# EAGLE library part HDMI_A_RECPT (library custom)
A HDMI type A single data receptacle
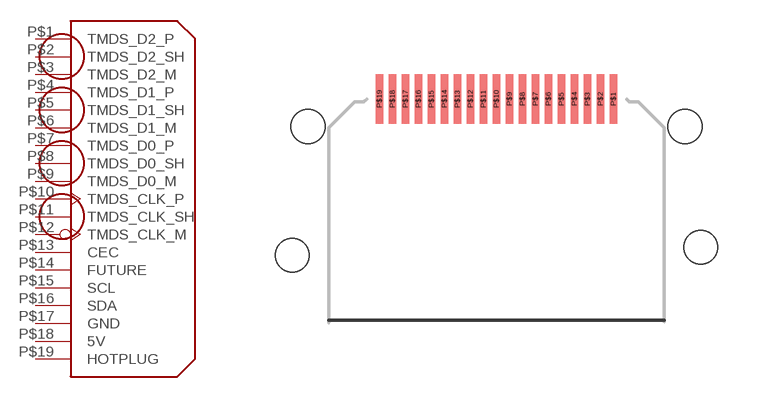
[diagram p12: symbol with the pads of HDMI_10029449-113RLF; footprint HDMI_10029449-113RLF]

Designator prefix -

## HDMI_A_RECPT  [HDMI_10029449-113RLF]
P$1  TMDS_D2_P
P$2  TMDS_D2_SH
P$3  TMDS_D2_M
P$4  TMDS_D1_P
P$5  TMDS_D1_SH
P$6  TMDS_D1_M
P$7  TMDS_D0_P
P$8  TMDS_D0_SH
P$9  TMDS_D0_M
P$10  TMDS_CLK_P
P$11  TMDS_CLK_SH
P$12  TMDS_CLK_M
P$13  CEC
P$14  FUTURE
P$15  SCL
P$16  SDA
P$17  GND  pwr
P$18  5V  pwr
P$19  HOTPLUG

## Footprint HDMI_10029449-113RLF (pad centres in mm)
Amphenol FCI 10029449-001RLF Digi-Key Part Number 609-1010-1-ND HDMI HDMI™ 1.4 Receptacle Connector 19 Position Surface Mount, Right Angle; Through Hole
smd 0.3 x 1.9: P$1 4.5,0.1; P$2 4,0.1; P$3 3.5,0.1; P$4 3,0.1; P$5 2.5,0.1; P$6 2,0.1; P$7 1.5,0.1; P$8 1,0.1; P$9 0.5,0.1; P$10 0,0.1; P$11 -0.5,0.1; P$12 -1,0.1; P$13 -1.5,0.1; P$14 -2,0.1; P$15 -2.5,0.1; P$16 -3,0.1; P$17 -3.5,0.1; P$18 -4,0.1; P$19 -4.5,0.1
hole 1.3 at 7.25,-0.95
hole 1.3 at -7.25,-0.95
hole 1.3 at -7.85,-5.9
hole 1.3 at 7.85,-5.6